# Altium footprint library SS34-1.PcbLib: 1 footprints
Each footprint in its own frame and in the unit in brackets; x right, y up, seen from the top. Pads: shape width x height; smd on the part's side, far side on the other; paste and mask are expansions set on the pad; w line width, h text height; cw(c..) or ccw(c..) is an arc to the next point about the centre after c.
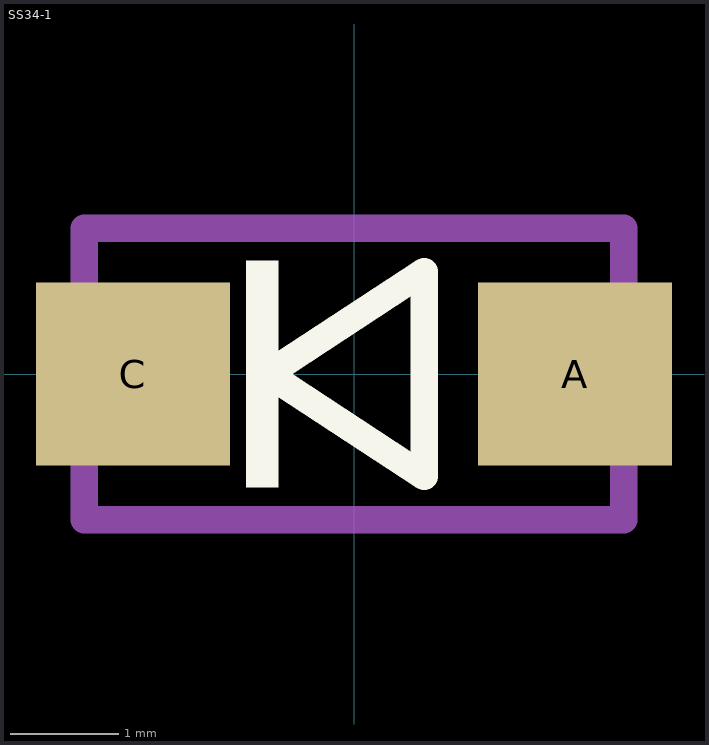
[diagram p0: the footprint, top view; thin cyan lines are the x and y axes]

## SS34-1 [mm]
pads (2):
  rect 1.8x1.7 smd: A(2.05,0) C(-2.05,0)
Top Overlay:
  region: -0.7,-1.05 -1,-1.05 -1,1.05 -0.7,1.05
  lines w0.254: -0.8,0 0.65,0.95 0.65,-0.95 -0.8,0
Mechanical 13:
  region: -2.6,-0.7 -2.85,-0.7 -2.85,0.65 -2.6,0.65
  region: 2.85,-0.7 2.6,-0.7 2.6,0.65 2.85,0.65
  lines w0.254: -2.5,-1.35 2.5,-1.35 2.5,1.35 -2.5,1.35 -2.5,-1.35